# EAGLE library part BD99950MUV-E2 (library Battery Chargers)
2 CELL / 3 CELL NARROW VDC CHARG Manufacturer's datasheet <http://rohmfs.rohm.com/en/products/databook/datasheet/ic/power/battery_management/bd99950muv-e.pdf>
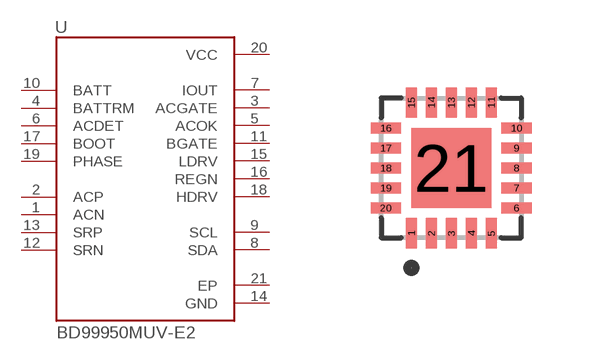
[diagram p24: symbol with the pads of BD99950MUV-E2; footprint BD99950MUV-E2]

Designator prefix U

## BD99950MUV-E2 (CREATED_BY: PCBLayout.com; DIGIKEY_PART_NUMBER: BD99950MUV-E2CT-ND; MANUFACTURER: Rohm Semiconductor; MPN: BD99950MUV-E2; PACKAGE: 20-VFQFN)  [BD99950MUV-E2]
1  ACN  in
2  ACP  in
3  ACGATE  out
4  BATTRM  in
5  ACOK  out
6  ACDET  in
7  IOUT  out
8  SDA
9  SCL  in
10  BATT  in
11  BGATE  out
12  SRN  in
13  SRP  in
14  GND  pwr
15  LDRV  out
16  REGN  out
17  BOOT  in
18  HDRV  out
19  PHASE  in
20  VCC  pwr
21  EP  pwr

## Footprint BD99950MUV-E2 (pad centres in mm)
smd 0.27 x 0.76: 1 -1,-1.635; 2 -0.5,-1.635; 3 0,-1.635; 4 0.5,-1.635; 5 1,-1.635; 11 1,1.635; 12 0.5,1.635; 13 0,1.635; 14 -0.5,1.635; 15 -1,1.635
smd 0.76 x 0.27: 6 1.635,-1; 7 1.635,-0.5; 8 1.635,0; 9 1.635,0.5; 10 1.635,1; 16 -1.635,1; 17 -1.635,0.5; 18 -1.635,0; 19 -1.635,-0.5; 20 -1.635,-1
smd 2 x 2: 21 0,0